# EAGLE library part MD2-60ST-SMT-40ST-RETRO (library OrlandoRonMod)
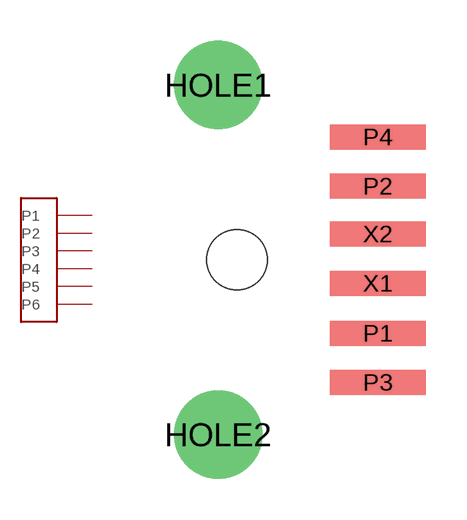
[diagram p17: symbol with the pads of DIN6-DIN4-RETRO; footprint DIN6-DIN4-RETRO]

Designator prefix -

## MD2-60ST-SMT-40ST-RETRO  [DIN6-DIN4-RETRO]
P1  P1
P2  P2
P3  P3
P4  P4
X1  P5
X2  P6

## Footprint DIN6-DIN4-RETRO (pad centres in mm)
drill 2.21: HOLE1 -0.686,6.401; HOLE2 -0.686,-6.401
smd 3.505 x 0.914: P1 5.156,-2.692; P2 5.156,2.692; P3 5.156,-4.496; P4 5.156,4.496; X1 5.156,-0.864; X2 5.156,0.94
hole 2.21 at 0,0